# Altium schematic symbol library MOSFET-TH.SchLib: 1 symbol
Pins are listed as number, name and electrical type; pins without a type are passive.

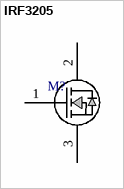
[diagram p0: symbol IRF3205]

## IRF3205
designator M?
N-Channel 55V 110A (Tc) 200W (Tc) Through Hole TO-220AB
footprint TO220AB
pins: 1 G, 2 D, 3 S